# EAGLE library part MAX6817EUT+T (library PCB_Components)
Supervisory Circuits Dual Switch Debouncer Source: Datasheet <http://datasheets.maximintegrated.com/en/ds/MAX6816-MAX6818.pdf>
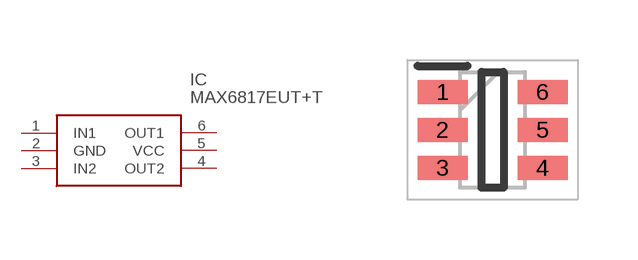
[diagram p2: symbol with the pads of SOT95P280X145-6N; footprint SOT95P280X145-6N]

Designator prefix IC

## MAX6817EUT+T (DESCRIPTION: Supervisory Circuits Dual Switch Debouncer; HEIGHT: 1.45mm; MANUFACTURER_NAME: Maxim Integrated; MANUFACTURER_PART_NUMBER: MAX6817EUT+T; MOUSER_PART_NUMBER: 700-MAX6817EUTT; MOUSER_PRICE-STOCK: https://www.mouser.co.uk/ProductDetail/Maxim-Integrated/MAX6817EUT%2bT?qs=1THa7WoU59HkU%2FfQtsyW%252BA%3D%3D)  [SOT95P280X145-6N]
1  IN1
2  GND
3  IN2
4  OUT2
5  VCC
6  OUT1

## Footprint SOT95P280X145-6N (pad centres in mm)
21-0058
smd 1.25 x 0.6: 1 -1.25,0.95; 2 -1.25,0; 3 -1.25,-0.95; 4 1.25,-0.95; 5 1.25,0; 6 1.25,0.95